# Altium footprint library OPT3007YMFR.PcbLib: 1 footprints
Each footprint in its own frame and in the unit in brackets; x right, y up, seen from the top. Pads: shape width x height; smd on the part's side, far side on the other; paste and mask are expansions set on the pad; w line width, h text height; cw(c..) or ccw(c..) is an arc to the next point about the centre after c.
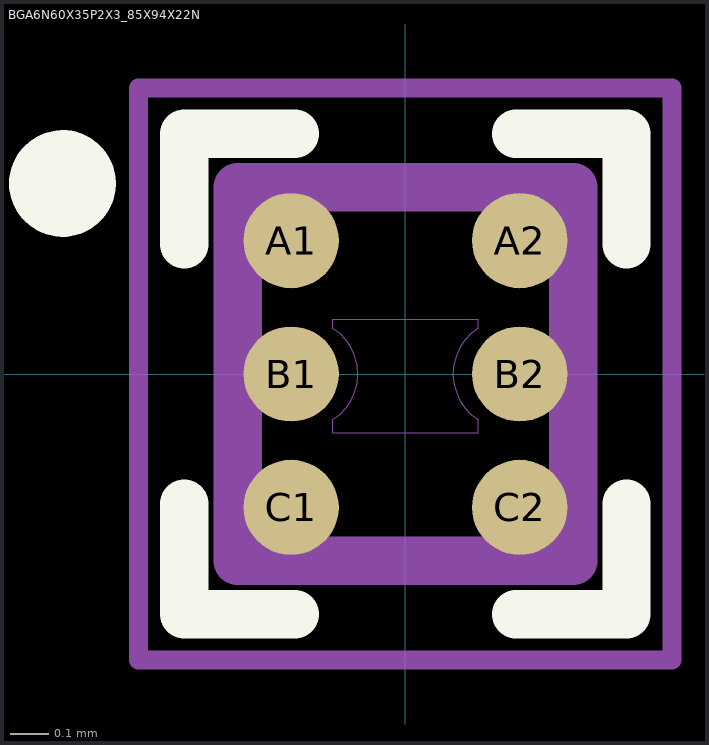
[diagram p0: the footprint, top view; thin cyan lines are the x and y axes]

## BGA6N60X35P2X3_85X94X22N [mm]
pads (6):
  round 0.25 smd paste-1 mask-0.05: A1(-0.3,0.35) A2(0.3,0.35) B1(-0.3,0) B2(0.3,0) C1(-0.3,-0.35) C2(0.3,-0.35)
Top Overlay:
  circle w0.14: c-0.9,0.5 r0.07
  lines w0.127: -0.58,-0.34 -0.58,-0.63 -0.29,-0.63 ; -0.58,0.34 -0.58,0.63 -0.29,0.63 ; 0.29,-0.63 0.58,-0.63 0.58,-0.34 ; 0.29,0.63 0.58,0.63 0.58,0.34
Top Paste:
  drawing of 6 lines, arcs and shapes, not listed
Mechanical 1:
  lines w0: -0.192,-0.121 ccw(c-0.267,0) -0.192,0.121 ; -0.191,-0.12 -0.191,-0.154 0.191,-0.154 0.191,-0.12 ; -0.191,0.12 -0.191,0.144 0.191,0.144 0.191,0.12 ; 0.192,-0.121 cw(c0.267,0) 0.192,0.121
Mechanical 13:
  lines w0.127: -0.44,-0.49 0.44,-0.49 0.44,0.49 -0.44,0.49 -0.44,-0.49
Mechanical 15:
  lines w0.05: -0.7,-0.75 0.7,-0.75 0.7,0.75 -0.7,0.75 -0.7,-0.75
3D body "step_temp.STEP": height 0.22, standoff -0.01, extent -0.428,-0.473 0.428,0.473